# EAGLE library part F305-1A7H1-11040-E100 (library Elektronik_lib)
Flex Connector, 0.50mm Pitch, Height 2.00mm, Right angle, Flip type, 40 position, With MYLAR Source: Datasheet <https://cdn.amphenol-cs.com/media/wysiwyg/files/drawing/f305-1.pdf>
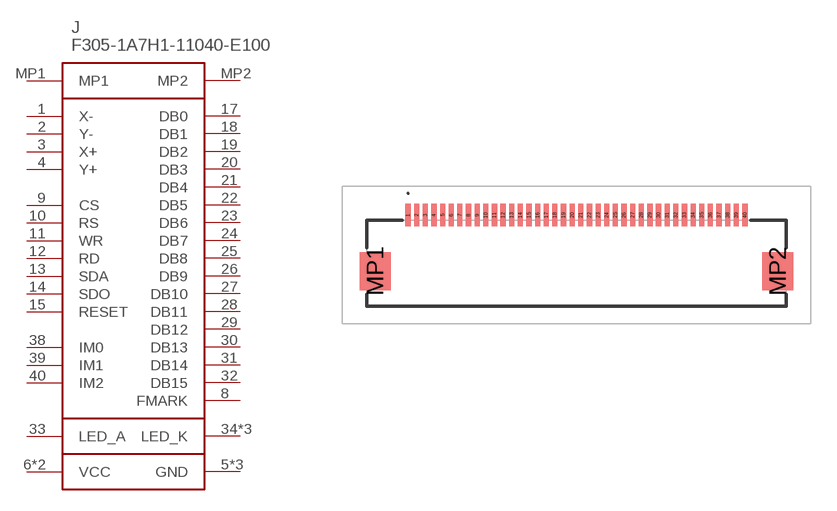
[diagram p13: symbol with the pads of F3051A7H111040E100; footprint F3051A7H111040E100]

Designator prefix J

## F305-1A7H1-11040-E100 (DESCRIPTION: Flex Connector, 0.50mm Pitch, Height 2.00mm, Right angle, Flip type, 40 position, With MYLAR; HEIGHT: 2.2mm; MANUFACTURER_NAME: Amphenol Communications Solutions; MANUFACTURER_PART_NUMBER: F305-1A7H1-11040-E100; MOUSER_PART_NUMBER: 649-F3051A7H111040E1; MOUSER_PRICE-STOCK: https://www.mouser.co.uk/ProductDetail/Amphenol-Aorora/F305-1A7H1-11040-E100?qs=xZ%2FP%252Ba9zWqZ5RVHUctg7AQ%3D%3D)  [F3051A7H111040E100]
1  X-
2  Y-
3  X+
4  Y+
5  GND
6  VCC
7  VCC
8  FMARK
9  CS
10  RS
11  WR
12  RD
13  SDA
14  SDO
15  RESET
16  GND
17  DB0
18  DB1
19  DB2
20  DB3
21  DB4
22  DB5
23  DB6
24  DB7
25  DB8
26  DB9
27  DB10
28  DB11
29  DB12
30  DB13
31  DB14
32  DB15
33  LED_A
34  LED_K
35  LED_K
36  LED_K
37  GND
38  IM0
39  IM1
40  IM2
MP1  MP1
MP2  MP2

## Footprint F3051A7H111040E100 (pad centres in mm)
F305-1A7H1-11040-E100-2
smd 0.3 x 1.3: 1 -9.75,2.8; 2 -9.25,2.8; 3 -8.75,2.8; 4 -8.25,2.8; 5 -7.75,2.8; 6 -7.25,2.8; 7 -6.75,2.8; 8 -6.25,2.8; 9 -5.75,2.8; 10 -5.25,2.8; 11 -4.75,2.8; 12 -4.25,2.8; 13 -3.75,2.8; 14 -3.25,2.8; 15 -2.75,2.8; 16 -2.25,2.8; 17 -1.75,2.8; 18 -1.25,2.8; 19 -0.75,2.8; 20 -0.25,2.8; 21 0.25,2.8; 22 0.75,2.8; 23 1.25,2.8; 24 1.75,2.8; 25 2.25,2.8; 26 2.75,2.8; 27 3.25,2.8; 28 3.75,2.8; 29 4.25,2.8; 30 4.75,2.8; 31 5.25,2.8; 32 5.75,2.8; 33 6.25,2.8; 34 6.75,2.8; 35 7.25,2.8; 36 7.75,2.8; 37 8.25,2.8; 38 8.75,2.8; 39 9.25,2.8; 40 9.75,2.8
smd 1.8 x 2.2: MP1 -11.65,-0.45; MP2 11.65,-0.45